# EAGLE library part LM293D (library LM293D_Compar)
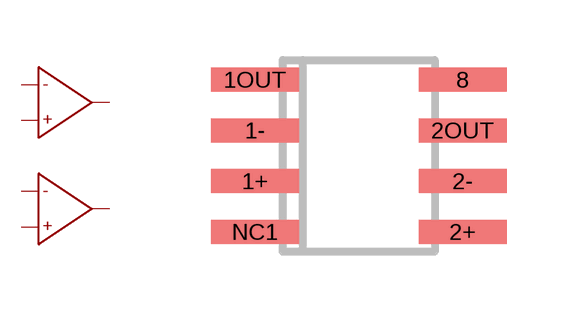
[diagram p0: symbol with the pads of SO08; footprint SO08]

Designator prefix -; gates G$1=COMP G$2=COMP

## LM293D  [SO08]
1+  G$1:+
1-  G$1:-
1OUT  G$1:OUT
2+  G$2:+
2-  G$2:-
2OUT  G$2:OUT

## Footprint SO08 (pad centres in mm)
SMALL OUTLINE INTEGRATED CIRCUIT body 3.9 mm/JEDEC MS-012AA
smd 2.2 x 0.6: 1+ -2.6,-0.635; 1- -2.6,0.635; 1OUT -2.6,1.905; 2+ 2.6,-1.905; 2- 2.6,-0.635; 2OUT 2.6,0.635; 8 2.6,1.905; NC1 -2.6,-1.905